# Altium footprint library 4-bit binary adder.PcbLib: 1 footprints
Each footprint in its own frame and in the unit in brackets; x right, y up, seen from the top. Pads: shape width x height; smd on the part's side, far side on the other; paste and mask are expansions set on the pad; w line width, h text height; cw(c..) or ccw(c..) is an arc to the next point about the centre after c.
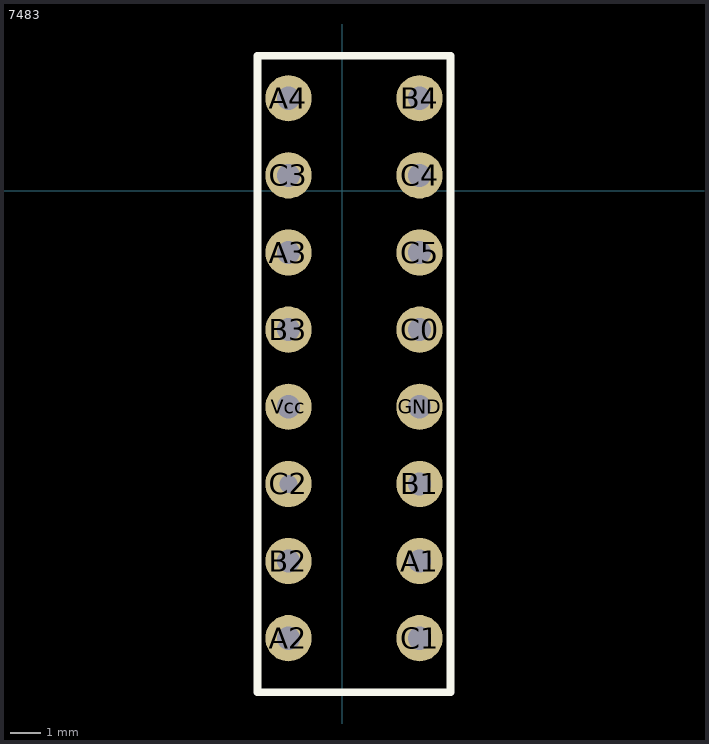
[diagram p0: the footprint, top view; thin cyan lines are the x and y axes]

## 7483 [mil]
pads (16):
  round 60 hole 30: A1(100,-480) A2(-70,-580) A3(-70,-80) A4(-70,120) B1(100,-380) B2(-70,-480) B3(-70,-180) B4(100,120) C0(100,-180) C1(100,-580) C3(-70,20) C4(100,20) C5(100,-80) GND(100,-280) Vcc(-70,-280)
  round 60 hole 23.62: C2(-70,-380)
Top Overlay:
  lines w10: -110,-650 140,-650 140,175 -110,175 -110,-650